# EAGLE library part 648009117322 (library Wire-to-Board (rev18a))
WR-WTB 1.50mm Male Horizontal Shrouded Header, 9 Pins=>Code : Con_WTB_1.50_PCB_THT_648009117322 <http://katalog.we-online.de/media/thumbs2/eican/thb_Con_WTB_1.50_PCB_THT_6480xx117322_pf2.jpg> Details see: http://katalog.we-online.de/en/em/WTB_1_50_MALE_HORIZONTAL_SHROUDED_HEADER_6480XX117322 Created 2014-06-06, Karrer Zheng 2014 (C) Würth Elektronik
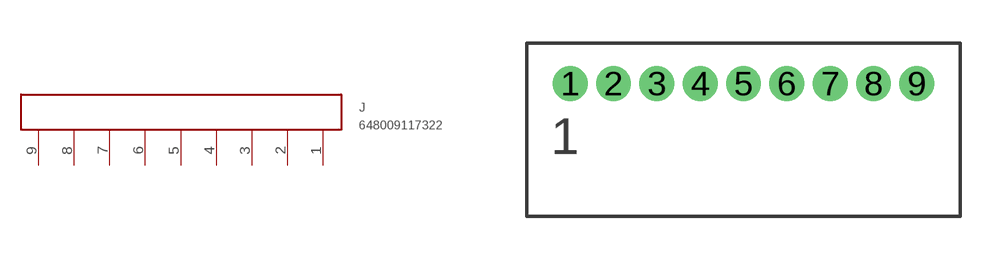
[diagram p79: symbol with the pads of 648009117322; footprint 648009117322]

Designator prefix J

## 648009117322  [648009117322]
1  9  pas
2  8  pas
3  7  pas
4  6  pas
5  5  pas
6  4  pas
7  3  pas
8  2  pas
9  1  pas

## Footprint 648009117322 (pad centres in mm)
WR-WTB 1.50mm Male Horizontal Shrouded Header, 9 Pins
drill 0.7: 1 -6,0; 2 -4.5,0; 3 -3,0; 4 -1.5,0; 5 0,0; 6 1.5,0; 7 3,0; 8 4.5,0; 9 6,0